# Altium schematic symbol library NUCLEOG431RB-Custom-IN-A2212.SchLib: 74 symbols (part 2 of 2)
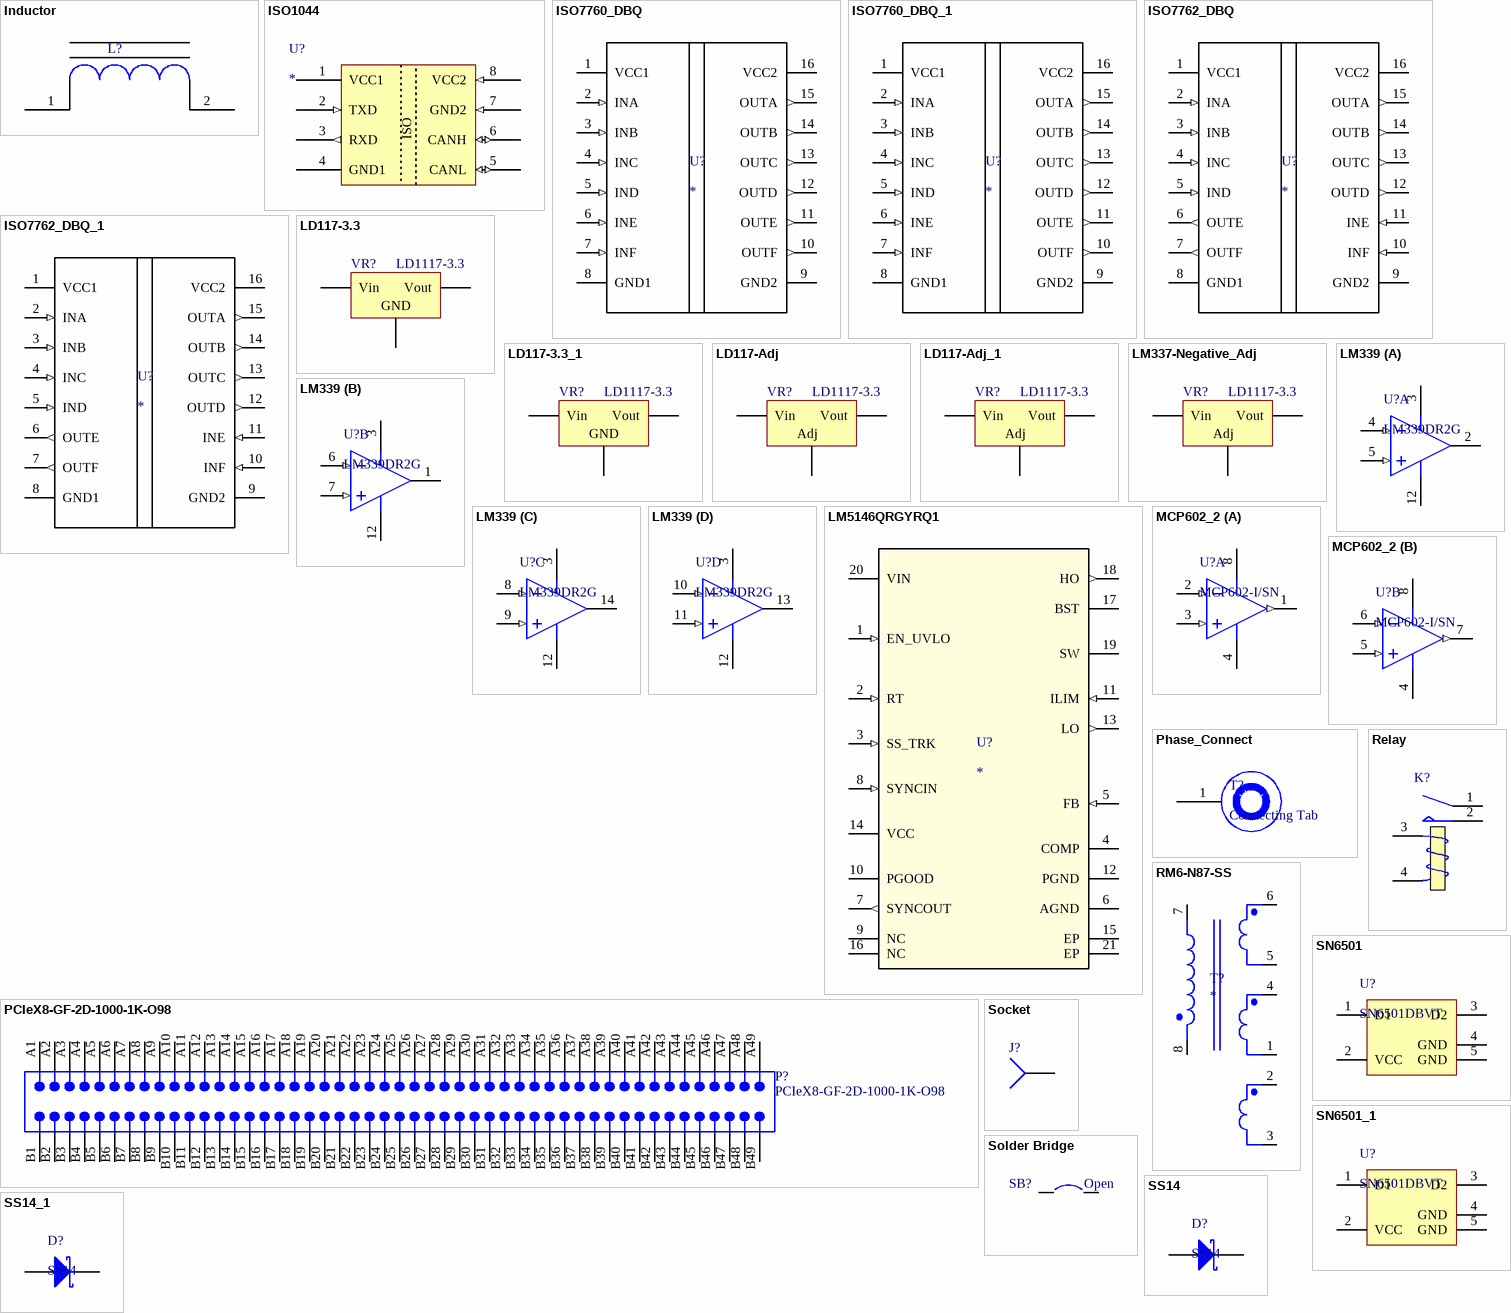
[diagram p3: symbols Inductor to SS14_1]

## MCP602_2
designator U?, comment MCP602-I/SN
2.7V to 6.0V Single Supply CMOS Operational Amplifier, 8-Pin SOIC, Industrial Temperature; ComponentLink1URL: http://www.microchip.com/; ComponentLink1Description: Manufacturer URL; RevisionNote: URLs added.; PackageReference: SOIC-SN8; ComponentLink2URL: http://ww1.microchip.com/downloads/en/DeviceDoc/21314g.pdf; ComponentLink3URL: http://www.microchip.com/stellent/groups/techpub_sg/documents/packagingspec/en012702.pdf; PackageDescription: 8-Lead Plastic Small Outline (SN) - Narrow, 3.90mm Body [SOIC]; DatasheetVersion: revG, Dec-2007; ComponentLink2Description: Datasheet; ComponentLink3Description: Package Specification; Code_IPC: SOIC127P600-8; Code_JEDEC: MS-012; PackageVersion: revBB, Aug-2009
footprint SOIC127P570X175_HS-9N - No Thermal (SOIC, 8-Leads, Body 4.91x3.90mm, Pitch 1.27mm, Thermal Pad 3.00x3.00mm, IPC Medium Density)
pins on every part: 4 VSS (power), 8 VDD (power)
part A pins: 1 VOUTA (out), 2 VINA- (in), 3 VINA+ (in)
part B pins: 5 VINB+ (in), 6 VINB- (in), 7 VOUTB (out)

## PCIeX8-GF-2D-1000-1K-O98
designator P?  (no BOM)
Golden finger, PCIeX8, Dual, Opposite, Pitch 1mm, 98-Position; Mating Connector: Molex-87715-9205; Package Version: rev2.0, Apr-2007; ClassName: Edge Connector; Package Reference: GF-2D-1000-1K-O98; Datasheet Version: rev2.0, Apr-2007; Publisher: Altium
footprint PCIeX8-GF-2D-1000-1K-O98 (Golden finger, PCIeX8, Dual, Opposite, Pitch 1mm, 98-Position)
pins: A1, A2, A3, A4, A5, A6, A7, A8, A9, A10, A11, A12, A13, A14, A15, A16, A17, A18, A19, A20, A21, A22, A23, A24, A25, A26, A27, A28, A29, A30, A31, A32, A33, A34, A35, A36, A37, A38, A39, A40, A41, A42, A43, A44, A45, A46, A47, A48, A49, B1, B2, B3, B4, B5, B6, B7, B8, B9, B10, B11, B12, B13, B14, B15, B16, B17, B18, B19, B20, B21, B22, B23, B24, B25, B26, B27, B28, B29, B30, B31, B32, B33, B34, B35, B36, B37, B38, B39, B40, B41, B42, B43, B44, B45, B46, B47, B48, B49

## Phase_Connect
designator T?, comment Connecting Tab
footprint Tab
pins: 1 0

## Relay
designator K?
SPDT Relay; Published: 8-Jun-2000; LatestRevisionDate: 17-Jul-2002; LatestRevisionNote: Re-released for DXP Platform.; PackageReference: MODULE5B; Publisher: Altium Limited
footprint Relay_T9VV1K15-12S
pins: 1 COM, 2 NO, 3 T1, 4 T2

## RM6-N87-SS
designator T?
footprint RM6-N87-SS (TDK)
pins: 1, 2, 3 hidden, 3, 4, 5, 6, 7, 8 hidden, 8

## SN6501
designator U?, comment SN6501DBVT
Transformer Driver for Isolated Power Supplies, 0.15 to 0.35 A, 3 to 5.5 V, -40 to 125 degC, 5-Pin SOT-23 (DBV), Green (RoHS & no Sb/Br), Tape and Reel; Manufacturer: TexasInstruments; Package Version: 4073253-4/N, 12/2014; Minimum Input Voltage: 3V; Switching Frequency: 300to620kHz; Output Voltage: 0to11V; Number of Outputs: 1; Maximum Input Voltage: 5.5V; Maximum Output Current: 0.35A; Type: Non-Inverting|Inverting|StepUp|StepDown; Package: 5SOT-23; Package URL: http://www.ti.com/lit/ml/mpds018l/mpds018l.pdf; Category: DCtoDCConverter; Package Reference: DBV5; Datasheet Version: Rev. G, 09/2014; Packaging: Tape&Reel; Operating Temperature: -40to125°C; Manufacturer URL: http://www.ti.com/; Mounting: SurfaceMount; Rad Hard: No; Package Description: 5-Pin Small Outline Transistor, Body 2.9 x 1.6 mm, Pitch 0.95 mm; Datasheet URL: http://www.ti.com/lit/ds/symlink/sn6501.pdf; Mounting Technology: SurfaceMount
footprint SOT95P278X110-5N (SOT23, 5-Leads, Body 2.90x2.78mm, Pitch 0.95mm, IPC Medium Density)
pins: 1 D1 (oc) "Open Drain output 1. Connect this pin to one end of the transformer primary side", 2 VCC (power) "Supply voltage input. Connect this pin to the center-tap of the transformer primary side. Buffer this voltage with a 1 uF to 10 uF ceramic capacitor", 3 D2 (oc) "Open Drain output 2. Connect this pin to the other end of the transformer primary side.", 4 GND (power) "Device ground. Connect this pin to board ground.", 5 GND (power) "Device ground. Connect this pin to board ground."

## SN6501_1
designator U?, comment SN6501DBVT
Transformer Driver for Isolated Power Supplies, 0.15 to 0.35 A, 3 to 5.5 V, -40 to 125 degC, 5-Pin SOT-23 (DBV), Green (RoHS & no Sb/Br), Tape and Reel; Manufacturer: TexasInstruments; Package Version: 4073253-4/N, 12/2014; Minimum Input Voltage: 3V; Switching Frequency: 300to620kHz; Output Voltage: 0to11V; Number of Outputs: 1; Maximum Input Voltage: 5.5V; Maximum Output Current: 0.35A; Type: Non-Inverting|Inverting|StepUp|StepDown; Package: 5SOT-23; Package URL: http://www.ti.com/lit/ml/mpds018l/mpds018l.pdf; Category: DCtoDCConverter; Package Reference: DBV5; Datasheet Version: Rev. G, 09/2014; Packaging: Tape&Reel; Operating Temperature: -40to125°C; Manufacturer URL: http://www.ti.com/; Mounting: SurfaceMount; Rad Hard: No; Package Description: 5-Pin Small Outline Transistor, Body 2.9 x 1.6 mm, Pitch 0.95 mm; Datasheet URL: http://www.ti.com/lit/ds/symlink/sn6501.pdf; Mounting Technology: SurfaceMount
footprint SOT95P278X110-5N (SOT23, 5-Leads, Body 2.90x2.78mm, Pitch 0.95mm, IPC Medium Density)
pins: 1 D1 (oc) "Open Drain output 1. Connect this pin to one end of the transformer primary side", 2 VCC (power) "Supply voltage input. Connect this pin to the center-tap of the transformer primary side. Buffer this voltage with a 1 uF to 10 uF ceramic capacitor", 3 D2 (oc) "Open Drain output 2. Connect this pin to the other end of the transformer primary side.", 4 GND (power) "Device ground. Connect this pin to board ground.", 5 GND (power) "Device ground. Connect this pin to board ground."

## Socket
designator J?
Socket; LatestRevisionDate: 17-Jul-2002; LatestRevisionNote: Re-released for DXP Platform.; Publisher: Altium Limited
footprint Mounting_hole_3mm
pins: 1

## Solder Bridge
designator SB?, comment Open  (no BOM)
Circuit Breaker; Published: 24-Mar-1999; Revision: July-2002: Re-released for DXP Platform.; Publisher: Altium Limited
footprint 0805-Solder Bridge
footprint 1206 - Solder Bridge
footprint SB_0603 (Jumper)
footprint Solder Bridge - HP - SQ
footprint Solder Bridge - HP
pins: 1, 2

## SS14
designator D?
Schottky Rectifier, 1.1 W, -65 to 125 degC, 2-Pin SMD, RoHS, Tape and Reel; Manufacturer: Fairchild; Configuration: SINGLE; Diode Element Material: SILICON; Power Dissipation Limit-Max (W): 1.1; Additional Feature: FREEWHEELINGDIODE; Signal Diode Type: SIGNALDIODE; Number of Elements: 1; JEDEC-95 Code: DO-214AC; Rep Pk Reverse Voltage-Max (V): 40; Package Body Material: PLASTIC/EPOXY; CAGE Code: 1HBD3,07933,59621,7D893; Peak Reflow Temperature (Cel): 260; Package Shape: RECTANGULAR; Manufacturer URL: https://www.fairchildsemi.com/; JESD-97 Code: e3; Package Reference: DO-214AC-2; RoHS Compliant: YES; Package Description: 2-Pin Surface Mount Device, Body 4.375 x 2.725 mm; Technology: SCHOTTKY; Surface Mount: YES; Datasheet URL: http://www.onlinecomponents.com/datasheet/ss14.aspx?p=11369800; Terminal Form: CBEND; Package Style: SMALLOUTLINE; Number of Terminals: 2; JESD-30 Code: R-PDSO-C2; Average Forward Current-Max (A): 1; Terminal Finish: MATTETIN; Datasheet Version: Oct-13; Terminal Position: DUAL; Package URL: https://www.fairchildsemi.com/package-drawings/DO/DO214AC.pdf; Moisture Sensitivity Level: 1; Lead Free: YES
footprint DIOM4226X22N (Molded Diode, 2-Leads, Body 4.25x2.64mm, IPC Medium Density)
pins: 1 K, 2 A

## SS14_1
designator D?, comment SS14
Schottky Rectifier, 1.1 W, -65 to 125 degC, 2-Pin SMD, RoHS, Tape and Reel; Manufacturer: Fairchild; Configuration: SINGLE; Diode Element Material: SILICON; Power Dissipation Limit-Max (W): 1.1; Additional Feature: FREEWHEELINGDIODE; Signal Diode Type: SIGNALDIODE; Number of Elements: 1; JEDEC-95 Code: DO-214AC; Rep Pk Reverse Voltage-Max (V): 40; Package Body Material: PLASTIC/EPOXY; CAGE Code: 1HBD3,07933,59621,7D893; Peak Reflow Temperature (Cel): 260; Package Shape: RECTANGULAR; Manufacturer URL: https://www.fairchildsemi.com/; JESD-97 Code: e3; Package Reference: DO-214AC-2; RoHS Compliant: YES; Package Description: 2-Pin Surface Mount Device, Body 4.375 x 2.725 mm; Technology: SCHOTTKY; Surface Mount: YES; Datasheet URL: http://www.onlinecomponents.com/datasheet/ss14.aspx?p=11369800; Terminal Form: CBEND; Package Style: SMALLOUTLINE; Number of Terminals: 2; JESD-30 Code: R-PDSO-C2; Average Forward Current-Max (A): 1; Terminal Finish: MATTETIN; Datasheet Version: Oct-13; Terminal Position: DUAL; Package URL: https://www.fairchildsemi.com/package-drawings/DO/DO214AC.pdf; Moisture Sensitivity Level: 1; Lead Free: YES
footprint DIOM4226X22N (Molded Diode, 2-Leads, Body 4.25x2.64mm, IPC Medium Density)
pins: 1 K, 2 A

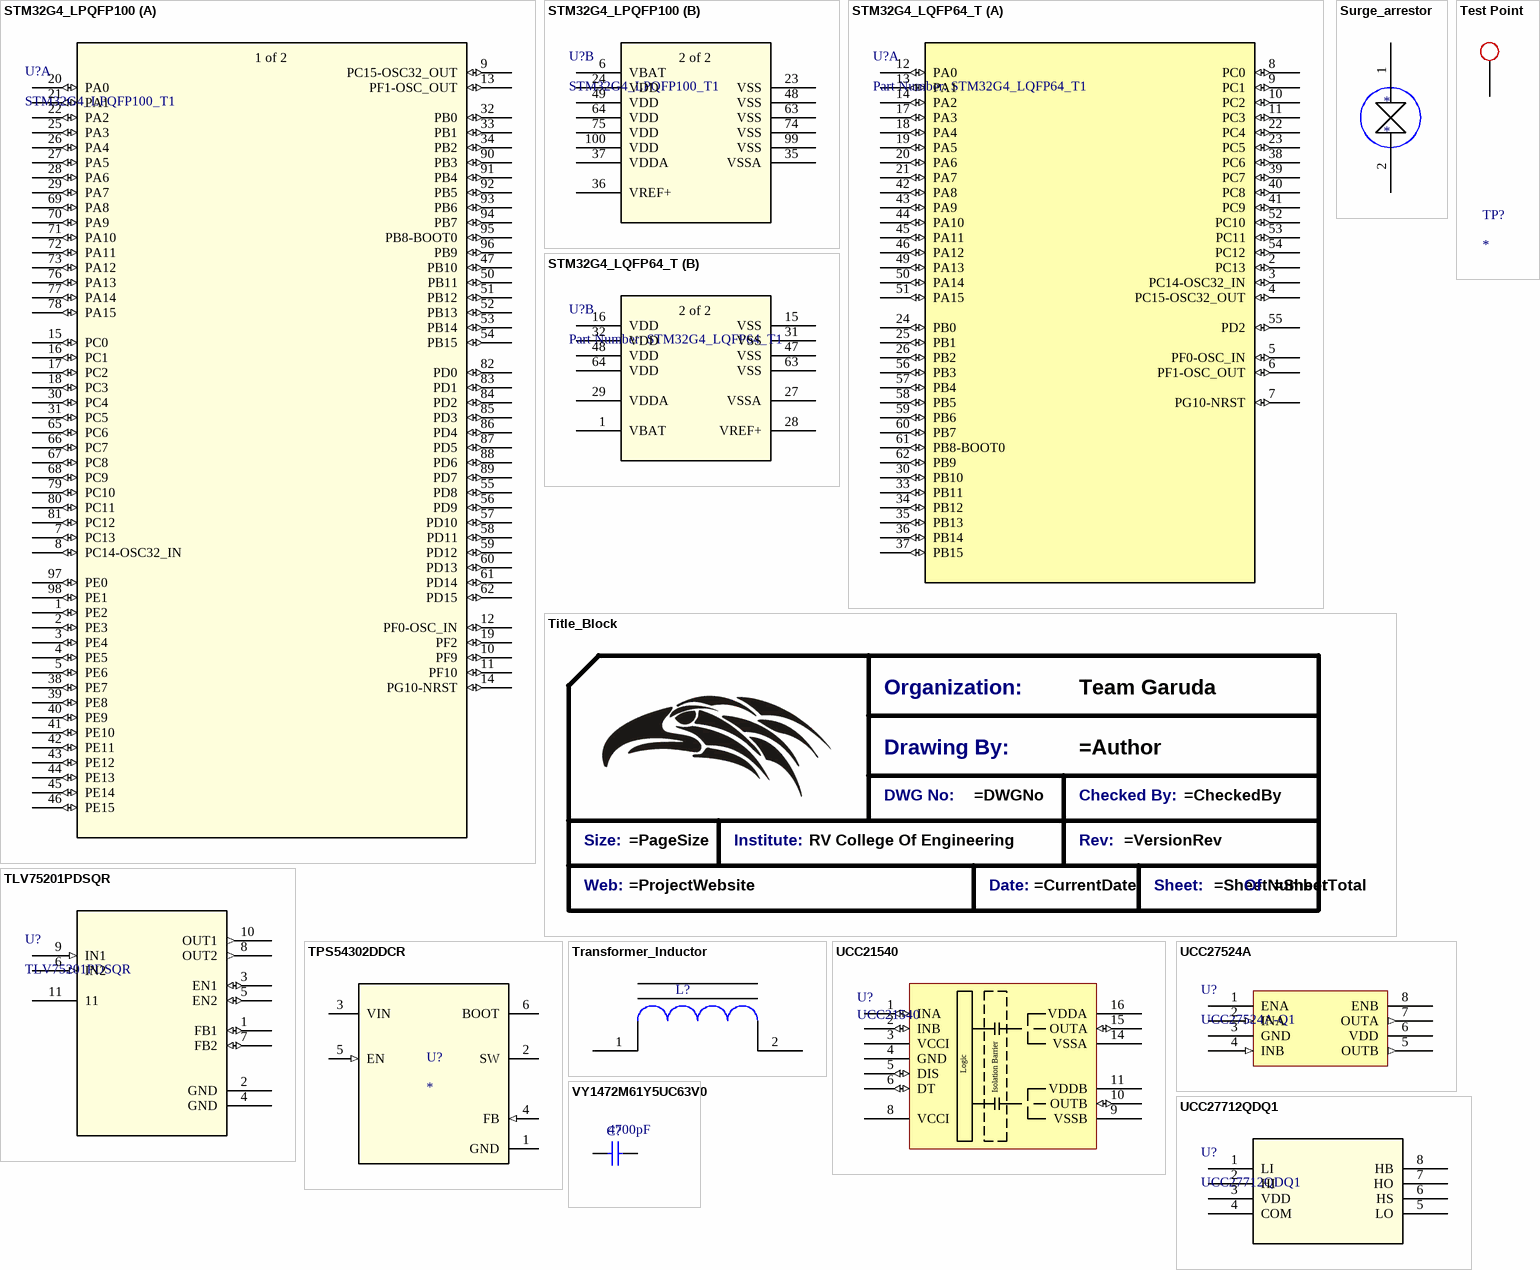
[diagram p2: symbols STM32G4_LPQFP100 to VY1472M61Y5UC63V0]

## STM32G4_LPQFP100
designator U?, comment STM32G4_LPQFP100_T1
No Description Available; Vendor: STMicroelectronics; Built_By: EMA_Jessica; Manufacturer_Part_Number: STM32G4_LPQFP100_T1; Copyright: Copyright (C) 2016 Accelerated Designs. All rights reserved; RefDes: RefDes; Type: DEV
footprint TSQFP50P1600X1600X160-100N (TSQFP, 100-Leads, Body 14.00x14.00mm, Pitch 0.50mm, IPC Medium Density)
part A pins: 1 PE2 (io), 2 PE3 (io), 3 PE4 (io), 4 PE5 (io), 5 PE6 (io), 7 PC13 (io), 8 PC14-OSC32_IN (io), 9 PC15-OSC32_OUT (io), 10 PF9 (io), 11 PF10 (io), 12 PF0-OSC_IN (io), 13 PF1-OSC_OUT (io), 14 PG10-NRST (io), 15 PC0 (io), 16 PC1 (io), 17 PC2 (io), 18 PC3 (io), 19 PF2 (io), 20 PA0 (io), 21 PA1 (io), 22 PA2 (io), 25 PA3 (io), 26 PA4 (io), 27 PA5 (io), 28 PA6 (io), 29 PA7 (io), 30 PC4 (io), 31 PC5 (io), 32 PB0 (io), 33 PB1 (io), 34 PB2 (io), 38 PE7 (io), 39 PE8 (io), 40 PE9 (io), 41 PE10 (io), 42 PE11 (io), 43 PE12 (io), 44 PE13 (io), 45 PE14 (io), 46 PE15 (io), 47 PB10 (io), 50 PB11 (io), 51 PB12 (io), 52 PB13 (io), 53 PB14 (io), 54 PB15 (io), 55 PD8 (io), 56 PD9 (io), 57 PD10 (io), 58 PD11 (io), 59 PD12 (io), 60 PD13 (io), 61 PD14 (io), 62 PD15 (io), 65 PC6 (io), 66 PC7 (io), 67 PC8 (io), 68 PC9 (io), 69 PA8 (io), 70 PA9 (io), 71 PA10 (io), 72 PA11 (io), 73 PA12 (io), 76 PA13 (io), 77 PA14 (io), 78 PA15 (io), 79 PC10 (io), 80 PC11 (io), 81 PC12 (io), 82 PD0 (io), 83 PD1 (io), 84 PD2 (io), 85 PD3 (io), 86 PD4 (io), 87 PD5 (io), 88 PD6 (io), 89 PD7 (io), 90 PB3 (io), 91 PB4 (io), 92 PB5 (io), 93 PB6 (io), 94 PB7 (io), 95 PB8-BOOT0 (io), 96 PB9 (io), 97 PE0 (io), 98 PE1 (io)
part B pins: 6 VBAT (power), 23 VSS (power), 24 VDD (power), 35 VSSA (power), 36 VREF+ (power), 37 VDDA (power), 48 VSS (power), 49 VDD (power), 63 VSS (power), 64 VDD (power), 74 VSS (power), 75 VDD (power), 99 VSS (power), 100 VDD (power)
part A text: 1 of 2
part B text: 2 of 2

## STM32G4_LQFP64_T
designator U?, comment Part Number: STM32G4_LQFP64_T1
No Description Available; Built_By: EMA_Jessica; Vendor: STMicroelectronics; Copyright: Copyright (C) 2016 Accelerated Designs. All rights reserved; Manufacturer_Part_Number: STM32G4_LQFP64_T1; RefDes: RefDes; Type: DEV; Value: Value
footprint TSQFP50P1200X1200X160-64N (TSQFP, 64-Leads, Body 10.00x10.00mm, Pitch 0.50mm, IPC Medium Density)
part A pins: 2 PC13 (io), 3 PC14-OSC32_IN (io), 4 PC15-OSC32_OUT (io), 5 PF0-OSC_IN (io), 6 PF1-OSC_OUT (io), 7 PG10-NRST (io), 8 PC0 (io), 9 PC1 (io), 10 PC2 (io), 11 PC3 (io), 12 PA0 (io), 13 PA1 (io), 14 PA2 (io), 17 PA3 (io), 18 PA4 (io), 19 PA5 (io), 20 PA6 (io), 21 PA7 (io), 22 PC4 (io), 23 PC5 (io), 24 PB0 (io), 25 PB1 (io), 26 PB2 (io), 30 PB10 (io), 33 PB11 (io), 34 PB12 (io), 35 PB13 (io), 36 PB14 (io), 37 PB15 (io), 38 PC6 (io), 39 PC7 (io), 40 PC8 (io), 41 PC9 (io), 42 PA8 (io), 43 PA9 (io), 44 PA10 (io), 45 PA11 (io), 46 PA12 (io), 49 PA13 (io), 50 PA14 (io), 51 PA15 (io), 52 PC10 (io), 53 PC11 (io), 54 PC12 (io), 55 PD2 (io), 56 PB3 (io), 57 PB4 (io), 58 PB5 (io), 59 PB6 (io), 60 PB7 (io), 61 PB8-BOOT0 (io), 62 PB9 (io)
part B pins: 1 VBAT (power), 15 VSS (power), 16 VDD (power), 27 VSSA (power), 28 VREF+ (power), 29 VDDA (power), 31 VSS (power), 32 VDD (power), 47 VSS (power), 48 VDD (power), 63 VSS (power), 64 VDD (power)
part B text: 2 of 2

## Surge_arrestor
designator *
pins: 1 0, 2 1

## Test Point
designator TP?  (no BOM)
Test Point
footprint Test_point_THT
footprint Test_point_SMD
pins: 1

## Title_Block
designator *  (value not drawn)  (graphical)
Standard Title Block
text: Organization:; Team Garuda; Drawing By:; DWG No:; Checked By:; Size:; Institute:; RV College Of Engineering; Rev:; Web:; Date:; Sheet:; Of

## TLV75201PDSQR
designator U?
No Description Available; SourceLibrary: TI_2020-07-28; Vendor: Texas Instruments; Built_By: EMA_Matt; Datasheet: https://www.ti.com/lit/ds/symlink/tlv752.pdf; Manufacturer_Part_Number: TLV75201PDSQR; Copyright: Copyright (C) 2018 Accelerated Designs. All rights reserved; RefDes: RefDes; Type: DEV
footprint SON40P200X80_HS-11N (SON, 10-Leads, Body 2.00x2.00mm, Pitch 0.40mm, Thermal Pad 1.50x0.45mm, IPC Medium Density)
pins: 1 FB1 (io), 2 GND, 3 EN1 (io), 4 GND, 5 EN2 (io), 6 IN2 (in), 7 FB2 (io), 8 OUT2 (out), 9 IN1 (in), 10 OUT1 (out), 11

## TPS54302DDCR
designator U?
Imported; PartNumber: TPS54302DDC; Manufacturer: Texas Instruments; Manufacturer_Part_Number: TPS54302DDCR; RefDes: RefDes; TYPE: TYPE; Value: Value; Manufacturer_Name: Texas Instruments
footprint SOT95P278X110-6N (SOT23, 6-Leads, Body 2.90x2.78mm, Pitch 0.95mm, IPC Medium Density)
pins: 1 GND (power), 2 SW (power), 3 VIN (power), 4 FB (in), 5 EN (in), 6 BOOT (power)

## Transformer_Inductor
designator L?  (value not drawn)
footprint PQ4040 (Vertica_Bobbin)
footprint PFC_Toroid_MPP (Vertica_Bobbin)
pins: 1, 2

## UCC21540
designator U?
pins: 1 INA (io), 2 INB (io), 3 VCCI (power), 4 GND (power), 5 DIS (io), 6 DT (io), 8 VCCI (power), 9 VSSB (power), 10 OUTB (io), 11 VDDB (power), 14 VSSA (power), 15 OUTA (io), 16 VDDA (power)
text: Logic; Isolation Barrier

## UCC27524A
designator U?, comment UCC27524A-Q1
footprint SOIC127P570X175_HS-9N (SOIC, 8-Leads, Body 4.91x3.90mm, Pitch 1.27mm, Thermal Pad 3.00x3.00mm, IPC Medium Density)
pins: 1 ENA, 2 INA (in), 3 GND (power), 4 INB (in), 5 OUTB (out), 6 VDD (power), 7 OUTA (out), 8 ENB

## UCC27712QDQ1
designator U?
No Description Available; Vendor: Texas Instruments; Built_By: EMA_Molly; SourceLibrary: TI_2019-05-11; Manufacturer_Part_Number: UCC27712QDQ1; Copyright: Copyright (C) 2018 Accelerated Designs. All rights reserved; RefDes: RefDes; Type: DEV
footprint SOIC127P570X175_HS-9N (SOIC, 8-Leads, Body 4.91x3.90mm, Pitch 1.27mm, Thermal Pad 3.00x3.00mm, IPC Medium Density)
pins: 1 LI, 2 HI, 3 VDD (power), 4 COM, 5 LO, 6 HS, 7 HO, 8 HB

## VY1472M61Y5UC63V0
designator C?  value 4700pF
Capacitor; Published: 8-Jun-2000; LatestRevisionDate: 17-Jul-2002; LatestRevisionNote: Re-released for DXP Platform.; PackageReference: RAD-0.3; Publisher: Altium Limited; PackageDescription: Radial Cap, Thru-Hole; 2 Leads; 0.3 in Pin Spacing
footprint VY1472M61Y5UC63V0
pins: 1, 2